# EAGLE library part ESP-12F (library esp8266-3cell)
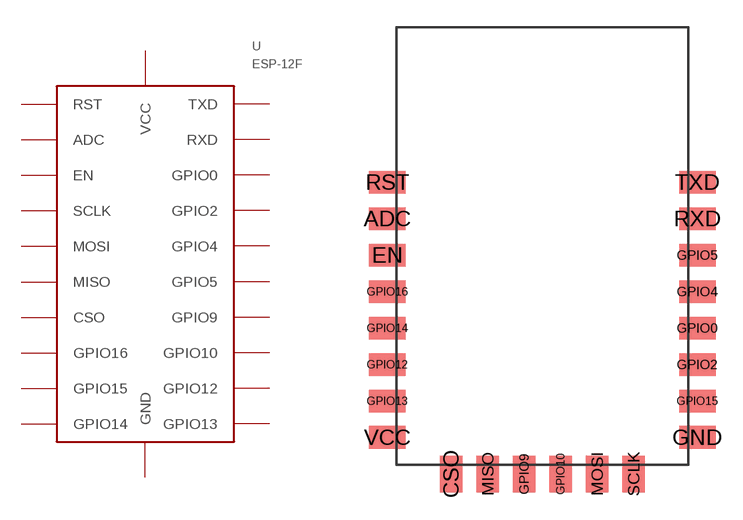
[diagram p0: symbol with the pads of ESP-12F; footprint ESP-12F]

Designator prefix -

## ESP-12F  [ESP-12F]
ADC  ADC
CSO  CSO
EN  EN
GND  GND
GPIO0  GPIO0
GPIO2  GPIO2
GPIO4  GPIO4
GPIO5  GPIO5
GPIO9  GPIO9
GPIO10  GPIO10
GPIO12  GPIO12
GPIO13  GPIO13
GPIO14  GPIO14
GPIO15  GPIO15
GPIO16  GPIO16
MISO  MISO
MOSI  MOSI
RST  RST
RXD  RXD
SCLK  SCLK
TXD  TXD
VCC  VCC

## Footprint ESP-12F (pad centres in mm)
smd 2 x 1.25: ADC -8.5,1.5; EN -8.5,-0.5; GND 8.5,-10.5; GPIO0 8.5,-4.5; GPIO2 8.5,-6.5; GPIO4 8.5,-2.5; GPIO5 8.5,-0.5; GPIO12 -8.5,-6.5; GPIO13 -8.5,-8.5; GPIO14 -8.5,-4.5; GPIO15 8.5,-8.5; GPIO16 -8.5,-2.5; RST -8.5,3.5; RXD 8.5,1.5; TXD 8.5,3.5; VCC -8.5,-10.5
smd 1.25 x 2: CSO -5,-12.5; GPIO9 -1,-12.5; GPIO10 1,-12.5; MISO -3,-12.5; MOSI 3,-12.5; SCLK 5,-12.5